# EAGLE library part MINIHDR-2X3 (library Lectrobox)
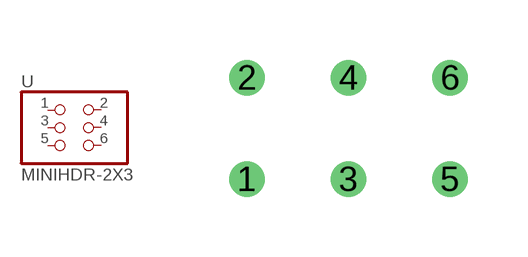
[diagram p4: symbol with the pads of MINIHDR-2X3; footprint MINIHDR-2X3]

Designator prefix -

## MINIHDR-2X3  [MINIHDR-2X3]
1  1  pas
2  2  pas
3  3  pas
4  4  pas
5  5  pas
6  6  pas

## Footprint MINIHDR-2X3 (pad centres in mm)
drill 0.381 round: 1 -2.54,-1.27; 2 -2.54,1.27; 3 0,-1.27; 4 0,1.27; 5 2.54,-1.27; 6 2.54,1.27